# EAGLE library part EC2-5NU (library power)
RELAY GEN PURPOSE DPDT 2A 5V
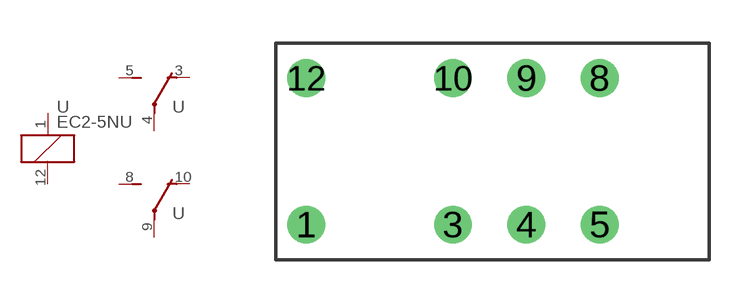
[diagram p6: symbol with the pads of EC2; footprint EC2]

Designator prefix U; gates G$1=K G$2=U G$3=U

## EC2-5NU  [EC2]
1  G$1:1  pas
3  G$2:O  pas
4  G$2:P  pas
5  G$2:S  pas
8  G$3:S  pas
9  G$3:P  pas
10  G$3:O  pas
12  G$1:2  pas

## Footprint EC2 (pad centres in mm)
drill 0.8: 1 -5.08,-2.54; 3 0,-2.54; 4 2.54,-2.54; 5 5.08,-2.54; 8 5.08,2.54; 9 2.54,2.54; 10 0,2.54; 12 -5.08,2.54